# EAGLE library part USB4085-GF-A_REVB (library USB4085-GF-A_REVB)
Check availability <https://pricing.snapeda.com/parts/USB4085-GF-A/Global%20Connector%20Technology/view-part?ref=eda>
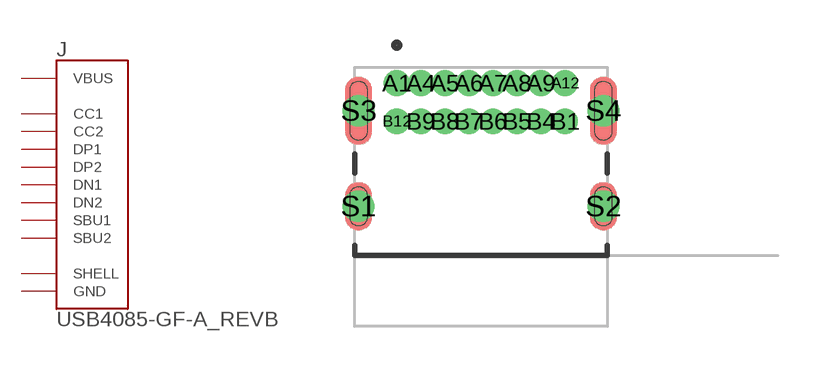
[diagram p0: symbol with the pads of GCT_USB4085-GF-A_REVB; footprint GCT_USB4085-GF-A_REVB]

Designator prefix J

## USB4085-GF-A_REVB (Availability: In Stock; Check_prices: https://www.snapeda.com/parts/USB4085-GF-A/Global+Connector+Technology/view-part/?ref=eda; Description: USB-C (USB TYPE-C) USB 2.0 Receptacle Connector 24 (16+8 Dummy) Position Through Hole, Right Angle, low cost, 3.46mm profile, 16 pin, horizontal, Top mount; MF: Global Connector Technology; MP: USB4085-GF-A; Package: None; Price: None; Purchase-URL: https://www.snapeda.com/api/url_track_click_mouser/?unipart_id=2780390&manufacturer=Global Connector Technology&part_name=USB4085-GF-A&search_term=None; SnapEDA_Link: https://www.snapeda.com/parts/USB4085-GF-A/Global+Connector+Technology/view-part/?ref=snap)  [GCT_USB4085-GF-A_REVB]
A1  GND  pwr
A4  VBUS  pwr
A5  CC1
A6  DP1
A7  DN1
A8  SBU1
A9  VBUS  pwr
A12  GND  pwr
B1  GND  pwr
B4  VBUS  pwr
B5  CC2
B6  DP2
B7  DN2
B8  SBU2
B9  VBUS  pwr
B12  GND  pwr
S1  SHELL  pas
S2  SHELL  pas
S3  SHELL  pas
S4  SHELL  pas

## Footprint GCT_USB4085-GF-A_REVB (pad centres in mm)
drill 0.4 pad 0.65: A1 -2.975,4.36; A4 -2.125,4.36; A5 -1.275,4.36; A6 -0.425,4.36; A7 0.425,4.36; A8 1.275,4.36; A9 2.125,4.36; A12 2.975,4.36; B1 2.975,3.01; B4 2.125,3.01; B5 1.275,3.01; B6 0.425,3.01; B7 -0.425,3.01; B8 -1.275,3.01; B9 -2.125,3.01; B12 -2.975,3.01
drill 0.6 pad 0.9: S1 -4.325,0; S2 4.325,0; S3 -4.325,3.38; S4 4.325,3.38